# EAGLE library part LTC2984 (library linear-technology)
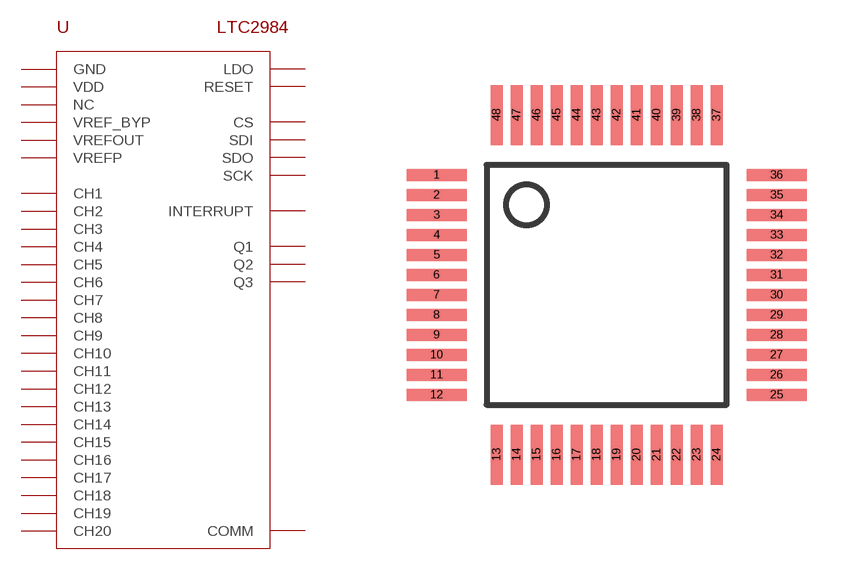
[diagram p35: symbol with the pads of LTC2984; footprint LTC2984]

Designator prefix U

## LTC2984  [LTC2984]
1  GND
2  VDD
3  GND
4  VDD
5  GND
6  VDD
7  GND
8  VDD
9  GND
10  NC
11  VREF_BYP
12  GND
13  VREFOUT
14  VREFP
15  GND
16  CH1
17  CH2
18  CH3
19  CH4
20  CH5
21  CH6
22  CH7
23  CH8
24  CH9
25  CH10
26  CH11
27  CH12
28  CH13
29  CH14
30  CH15
31  CH16
32  CH17
33  CH18
34  CH19
35  CH20
36  COMM
37  INTERRUPT
38  SCK
39  SDO
40  SDI
41  CS
42  RESET
43  LDO
44  GND
45  VDD
46  Q3
47  Q2
48  Q1

## Footprint LTC2984 (pad centres in mm)
smd 1.5 x 0.3: 1 -4.25,2.75; 2 -4.25,2.25; 3 -4.25,1.75; 4 -4.25,1.25; 5 -4.25,0.75; 6 -4.25,0.25; 7 -4.25,-0.25; 8 -4.25,-0.75; 9 -4.25,-1.25; 10 -4.25,-1.75; 11 -4.25,-2.25; 12 -4.25,-2.75; 25 4.25,-2.75; 26 4.25,-2.25; 27 4.25,-1.75; 28 4.25,-1.25; 29 4.25,-0.75; 30 4.25,-0.25; 31 4.25,0.25; 32 4.25,0.75; 33 4.25,1.25; 34 4.25,1.75; 35 4.25,2.25; 36 4.25,2.75
smd 0.3 x 1.5: 13 -2.75,-4.25; 14 -2.25,-4.25; 15 -1.75,-4.25; 16 -1.25,-4.25; 17 -0.75,-4.25; 18 -0.25,-4.25; 19 0.25,-4.25; 20 0.75,-4.25; 21 1.25,-4.25; 22 1.75,-4.25; 23 2.25,-4.25; 24 2.75,-4.25; 37 2.75,4.25; 38 2.25,4.25; 39 1.75,4.25; 40 1.25,4.25; 41 0.75,4.25; 42 0.25,4.25; 43 -0.25,4.25; 44 -0.75,4.25; 45 -1.25,4.25; 46 -1.75,4.25; 47 -2.25,4.25; 48 -2.75,4.25